# Altium footprint library PcbLib1.PcbLib: 18 footprints (part 1 of 2)
Each footprint in its own frame and in the unit in brackets; x right, y up, seen from the top. Pads: shape width x height; smd on the part's side, far side on the other; paste and mask are expansions set on the pad; w line width, h text height; cw(c..) or ccw(c..) is an arc to the next point about the centre after c.
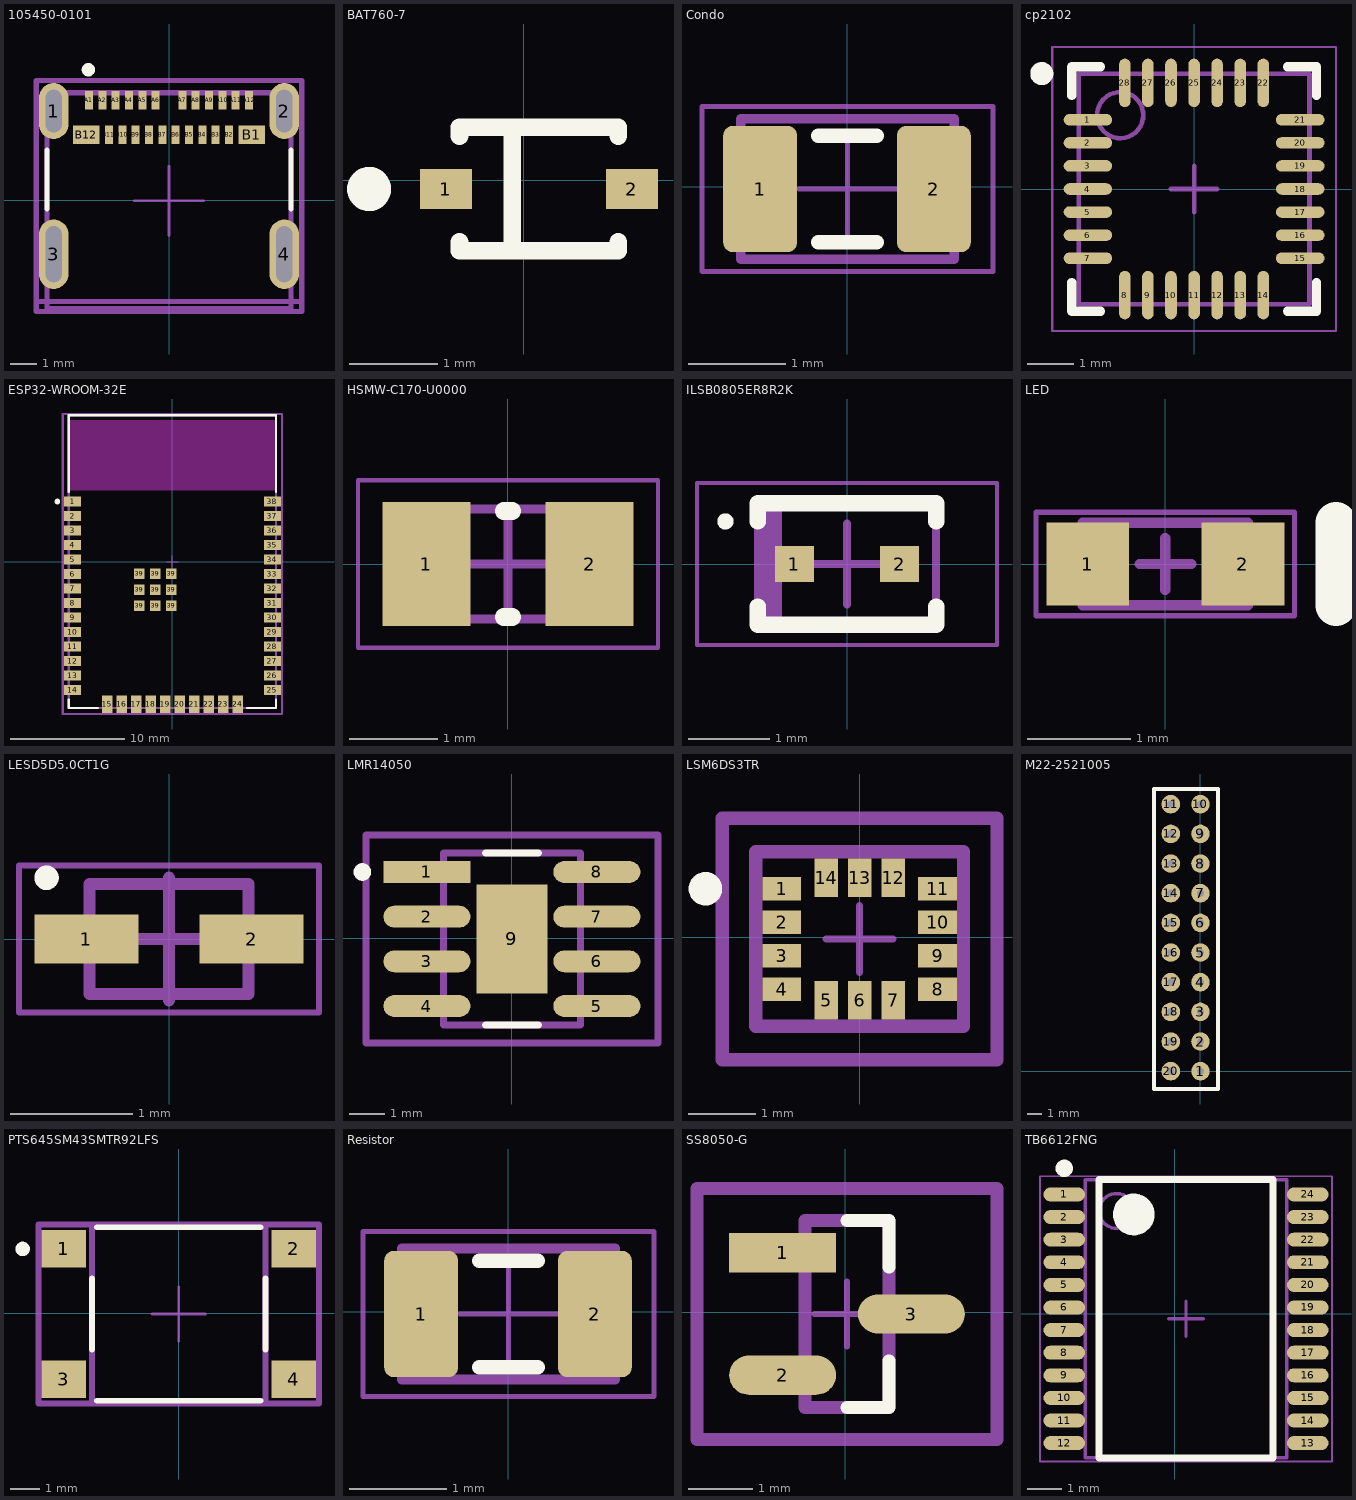
[diagram p0: the footprints below, top view; thin cyan lines are the x and y axes]

## 105450-0101 [mm] "importé !"
pads (28):
  rrect100% 1.1x2.1 hole 1.6 slot 0.6 at 0 deg paste-2539.97 mask+0: 1(-4.32,3.335) 2(4.32,3.335)
  rrect100% 1.1x2.6 hole 2.1 slot 0.6 at 0 deg paste-2539.97 mask+0: 3(-4.32,-2.025) 4(4.32,-2.025)
  rect 0.3x0.7 smd paste+0 mask+0: A1(-3,3.745) A2(-2.5,3.745) A3(-2,3.745) A4(-1.5,3.745) A5(-1,3.745) A6(-0.5,3.745) A7(0.5,3.745) A8(1,3.745) A9(1.5,3.745) A10(2,3.745) A11(2.5,3.745) A12(3,3.745) B2(2.25,2.445) B3(1.75,2.445) B4(1.25,2.445) B5(0.75,2.445) B6(0.25,2.445) B7(-0.25,2.445) B8(-0.75,2.445) B9(-1.25,2.445) B10(-1.75,2.445) B11(-2.25,2.445)
  rect 1x0.7 smd paste+0 mask+0: B1(3.1,2.445) B12(-3.1,2.445)
Top Overlay:
  circle w0.25: c-3.02,4.885 r0.125
  lines w0.2: -4.57,-0.325 -4.57,1.875 ; 4.57,-0.325 4.57,1.875
Top 3D Body:
  lines w0.2: -4.97,-3.795 4.97,-3.795 ; -4.57,-4.075 4.57,-4.075 4.57,4.025 -4.57,4.025 -4.57,-4.075
Board:
  lines w0.2: -4.97,-4.175 4.97,-4.175 4.97,4.485 -4.97,4.485 -4.97,-4.175
Top Assembly:
  lines w0.2: -4.97,-4.175 4.97,-4.175 4.97,4.485 -4.97,4.485 -4.97,-4.175
Top Component Center:
  lines w0.1: -1.299,-0.025 1.299,-0.025 ; 0,-1.324 0,1.274

## BAT760-7 [mm]
pads (2):
  rect 0.59x0.45 smd paste+0 mask+0: 1(-0.885,-0.099) 2(1.225,-0.099)
Top Overlay:
  circle w0.25: c-1.755,-0.099 r0.125
  lines w0.2: -0.73,-0.699 -0.73,-0.799 1.07,-0.799 1.07,-0.699 ; -0.73,0.501 -0.73,0.601 1.07,0.601 1.07,0.501 ; -0.13,-0.699 -0.13,0.501

## Condo [mm]
pads (2):
  rrect25% 0.76x1.3 smd: 1(-0.9,-0.025) 2(0.89,-0.025)
Top Overlay:
  lines w0.15: -0.3,-0.575 0.3,-0.575 ; -0.3,0.525 0.3,0.525
Top Courtyard:
  lines w0.05: -0.5,-0.025 0.5,-0.025 ; 0,-0.525 0,0.475 ; -1.5,-0.875 -1.5,0.825 1.5,0.825 1.5,-0.875 -1.5,-0.875
Top Assembly:
  lines w0.1: -1.1,-0.75 1.1,-0.75 1.1,0.7 -1.1,0.7 -1.1,-0.75
Top Designator:
3D body "CAPC2012X145N EIA 0805.STEP": height 1.45, standoff 0, extent -1,-0.625 1,0.575

## cp2102 [mm] "QFN, 28-Leads, Body 5,00x5,00mm, Pitch 0,50mm, Thermal Pad 3,13x3,13mm, IPC Medium Density"
height 1
pads (28):
  oval 1.05x0.25 smd: 1(-2.3,1.5) 2(-2.3,1) 3(-2.3,0.5) 4(-2.3,0) 5(-2.3,-0.5) 6(-2.3,-1) 7(-2.3,-1.5) 15(2.3,-1.5) 16(2.3,-1) 17(2.3,-0.5) 18(2.3,0) 19(2.3,0.5) 20(2.3,1) 21(2.3,1.5)
  oval 0.25x1.05 smd: 8(-1.5,-2.3) 9(-1,-2.3) 10(-0.5,-2.3) 11(0,-2.3) 12(0.5,-2.3) 13(1,-2.3) 14(1.5,-2.3) 22(1.5,2.3) 23(1,2.3) 24(0.5,2.3) 25(0,2.3) 26(-0.5,2.3) 27(-1,2.3) 28(-1.5,2.3)
Top Overlay:
  circle w0.25: c-3.3,2.5 r0.125
  lines w0.2: -2.65,-2.025 -2.65,-2.65 -2.025,-2.65 ; -2.65,2.025 -2.65,2.65 -2.025,2.65 ; 2.025,-2.65 2.65,-2.65 2.65,-2.025 ; 2.025,2.65 2.65,2.65 2.65,2.025
Mechanical 13:
  circle w0.1: c-1.6,1.6 r0.5
  lines w0.1: -2.5,-2.5 -2.5,2.5 2.5,2.5 2.5,-2.5 -2.5,-2.5
Mechanical 15:
  lines w0.05: -3.075,-3.075 -3.075,3.075 3.075,3.075 3.075,-3.075 -3.075,-3.075
  lines w0.1: -0.5,0 0.5,0 ; 0,-0.5 0,0.5
3D body "QFN50P500X500X100_HS-29N.step": height 1, standoff 0, extent -2.55,-2.55 2.55,2.55

## ESP32-WROOM-32E [mm]
pads (47):
  rect 1.5x0.9 smd paste+0 mask+0: 1(-8.75,5.262) 2(-8.75,3.992) 3(-8.75,2.722) 4(-8.75,1.452) 5(-8.75,0.182) 6(-8.75,-1.088) 7(-8.75,-2.358) 8(-8.75,-3.628) 9(-8.75,-4.898) 10(-8.75,-6.168) 11(-8.75,-7.438) 12(-8.75,-8.708) 13(-8.75,-9.978) 14(-8.75,-11.248) 25(8.75,-11.248) 26(8.75,-9.978) 27(8.75,-8.708) 28(8.75,-7.438) 29(8.75,-6.168) 30(8.75,-4.898) 31(8.75,-3.628) 32(8.75,-2.358) 33(8.75,-1.088) 34(8.75,0.182) 35(8.75,1.452) 36(8.75,2.722) 37(8.75,3.992) 38(8.75,5.262)
  rect 0.9x1.5 smd paste+0 mask+0: 15(-5.71,-12.498) 16(-4.44,-12.498) 17(-3.17,-12.498) 18(-1.9,-12.498) 19(-0.63,-12.498) 20(0.64,-12.498) 21(1.91,-12.498) 22(3.18,-12.498) 23(4.45,-12.498) 24(5.72,-12.498)
  rect 0.9x0.9 smd paste+0 mask+0: 39(-2.9,-3.858) 39(-2.9,-2.458) 39(-2.9,-1.058) 39(-1.5,-3.858) 39(-1.5,-2.458) 39(-1.5,-1.058) 39(-0.1,-3.858) 39(-0.1,-2.458) 39(-0.1,-1.058)
Top Overlay:
  circle w0.25: c-10.075,5.262 r0.125
  lines w0.2: -9.075,-12.073 -9.075,-12.823 -6.535,-12.823 ; -9.075,6.087 -9.075,12.827 9.075,12.827 9.075,6.087 ; 6.545,-12.823 9.075,-12.823 9.075,-12.073
Keep-Out Layer:
  rectangle: -9,6.207 9,12.397
  rectangle: -9,6.207 9,12.397
Top 3D Body:
  lines w0.2: -9.075,-12.823 9.075,-12.823 9.075,12.827 -9.075,12.827 -9.075,-12.823
Board:
  lines w0.2: -9.6,-13.348 9.6,-13.348 9.6,12.927 -9.6,12.927 -9.6,-13.348
Top Assembly:
  lines w0.2: -9.6,-13.348 9.6,-13.348 9.6,12.927 -9.6,12.927 -9.6,-13.348
Top Component Center:
  lines w0.1: -0.5,0.002 0.5,0.002 ; 0,-0.498 0,0.502
3D body "UNK_Espressif_Systems_ESP32-WROOM-32E_4MB_eec.STEP": height 0.25, standoff 0, extent -9.6,-13.348 9.6,12.927

## HSMW-C170-U0000 [mm] "Chip Diode, 2-Leads, Body 2,00x1,25mm, IPC Medium Density"
height 0.8
pads (2):
  rect 1x1.4 smd: 1(-0.925,0) 2(0.925,0)
Top Overlay:
  lines w0.2: -0.05,-0.6 0.05,-0.6 ; -0.05,0.6 0.05,0.6
Mechanical 13:
  lines w0.1: -1,-0.625 -1,0.625 1,0.625 1,-0.625 -1,-0.625
Mechanical 15:
  lines w0.05: -1.7,-0.95 -1.7,0.95 1.7,0.95 1.7,-0.95 -1.7,-0.95
  lines w0.1: -0.5,0 0.5,0 ; 0,-0.5 0,0.5
3D body "DIOC2012X08N.step": height 0.8, standoff 0, extent -1,-0.625 1,0.625

## ILSB0805ER8R2K [mm] "Molded Diode, 2-Leads, Body 2,00x1,25mm, IPC Medium Density"
height 1.4
pads (2):
  rect 0.48x0.45 smd: 1(-0.65,0) 2(0.65,0)
Top Overlay:
  circle w0.1: c-1.5,0.525 r0.05
  lines w0.2: -1.1,-0.525 -1.1,-0.75 1.1,-0.75 1.1,-0.525 ; -1.1,0.525 -1.1,0.75 1.1,0.75 1.1,0.525
Mechanical 13:
  rectangle: -1.1,-0.725 -0.804,0.725
  lines w0.1: -1.1,-0.725 1.1,-0.725 1.1,0.725 -1.1,0.725 -1.1,-0.725
Mechanical 15:
  lines w0.05: -1.85,-1 1.85,-1 1.85,1 -1.85,1 -1.85,-1
  lines w0.1: -0.5,0 0.5,0 ; 0,-0.5 0,0.5
3D body "DIOM2012X14N.step": height 1.4, standoff 0, extent -1.32,-0.725 1.32,0.725

## LED [mm]
pads (2):
  rect 0.8x0.8 smd: 1(-0.75,0) 2(0.75,0)
Top Overlay:
  lines w0.4: 1.65,-0.4 1.65,0.4
Mechanical 13:
  lines w0.1: -0.55,-0.4 -0.55,0.4 ; 0.55,-0.4 0.55,0.4 ; -0.8,-0.4 -0.8,0.4 0.8,0.4 0.8,-0.4 -0.8,-0.4
Mechanical 15:
  lines w0.05: -1.25,-0.5 1.25,-0.5 1.25,0.5 -1.25,0.5 -1.25,-0.5
  lines w0.1: -0.25,0 0.25,0 ; 0,-0.25 0,0.25
3D body: height 0.65, standoff 0.28, extent -0.55,-0.4 0.55,0.4
3D body: height 0.28, standoff 0, extent -0.8,-0.4 0.8,0.4

## LESD5D5.0CT1G [mm] "SODFL, 2-Leads, Body 0,80x1,60mm, IPC Medium Density"
height 0.6
pads (2):
  rect 0.85x0.4 smd: 1(-0.675,0) 2(0.675,0)
Top Overlay:
  circle w0.1: c-1,0.5 r0.05
Top Courtyard:
  lines w0.05: -1.225,-0.6 -1.225,0.6 1.225,0.6 1.225,-0.6 -1.225,-0.6
  lines w0.1: -0.5,0 0.5,0 ; 0,-0.5 0,0.5
Top Assembly:
  lines w0.1: -0.65,-0.45 -0.65,0.45 0.65,0.45 0.65,-0.45 -0.65,-0.45
3D body "SODFL160X60-2N.step": height 0.6, standoff 0, extent -0.8,-0.45 0.8,0.45

## LMR14050 [mm]
pads (9):
  rect 2.474x0.622 smd paste+0 mask+0: 1(-2.416,1.88)
  rrect100% 2.474x0.622 smd paste+0 mask+0: 2(-2.416,0.61) 3(-2.416,-0.66) 4(-2.416,-1.93) 5(2.416,-1.93) 6(2.416,-0.66) 7(2.416,0.61) 8(2.416,1.88)
  rect 2.025x3.1 smd paste-1000 mask+0: 9(0,-0.025)
Top Overlay:
  circle w0.25: c-4.25,1.88 r0.125
  lines w0.2: -0.75,-2.475 0.75,-2.475 ; -0.75,2.425 0.75,2.425
Top Paste:
  rectangle: -0.568,-1.13 0.568,1.08
Top 3D Body:
  lines w0.2: -1.95,-2.475 1.95,-2.475 1.95,2.425 -1.95,2.425 -1.95,-2.475
Board:
  lines w0.2: -4.153,-2.975 4.153,-2.975 4.153,2.925 -4.153,2.925 -4.153,-2.975
Top Assembly:
  lines w0.2: -4.153,-2.975 4.153,-2.975 4.153,2.925 -4.153,2.925 -4.153,-2.975
Top Component Center:
  lines w0.1: -0.5,-0.025 0.5,-0.025 ; 0,-0.525 0,0.475
3D body "IC_Texas_Instruments_TPS54360BQDDARQ1_eec.STEP": height 0.25, standoff 0, extent -4.153,-2.975 4.153,2.925

## LSM6DS3TR [mm]
pads (14):
  rect 0.575x0.35 smd paste+0 mask+0: 1(-1.162,0.725) 2(-1.162,0.225) 3(-1.162,-0.275) 4(-1.162,-0.775) 8(1.162,-0.775) 9(1.162,-0.275) 10(1.162,0.225) 11(1.162,0.725)
  rect 0.35x0.575 smd paste+0 mask+0: 5(-0.5,-0.938) 6(0,-0.938) 7(0.5,-0.938) 12(0.5,0.887) 13(0,0.887) 14(-0.5,0.887)
Top Overlay:
  circle w0.25: c-2.3,0.725 r0.125
Top 3D Body:
  lines w0.2: -1.55,-1.325 -1.55,1.275 1.55,1.275 1.55,-1.325 -1.55,-1.325
Board:
  lines w0.2: -2.05,-1.825 -2.05,1.775 2.05,1.775 2.05,-1.825 -2.05,-1.825
Top Assembly:
  lines w0.2: -2.05,-1.825 -2.05,1.775 2.05,1.775 2.05,-1.825 -2.05,-1.825
Top Component Center:
  lines w0.1: -0.5,-0.025 0.5,-0.025 ; 0,-0.525 0,0.475
3D body "IC_STMicroelectronics_LSM6DS3TR_eec.STEP": height 0.25, standoff 0, extent -2.05,-1.825 2.05,1.775

## M22-2521005 [mm]
pads (20):
  round 1.25 hole 0.5: 1(0,0) 2(0,2) 3(0,4) 4(0,6) 5(0,8) 6(0,10) 7(0,12) 8(0,14) 9(0,16) 10(0,18) 11(-2,18) 12(-2,16) 13(-2,14) 14(-2,12) 15(-2,10) 16(-2,8) 17(-2,6) 18(-2,4) 19(-2,2) 20(-2,0)
Top Overlay:
  lines w0.254: -3.125,-1.2 1.175,-1.2 1.175,19.025 -3.125,19.025 -3.125,-1.2

## PTS645SM43SMTR92LFS [mm]
pads (4):
  rect 1.55x1.3 smd paste+0 mask+0: 1(-3.975,2.225) 2(3.975,2.225) 3(-3.975,-2.275) 4(3.975,-2.275)
Top Overlay:
  circle w0.25: c-5.4,2.225 r0.125
  lines w0.2: -3,-1.25 -3,1.2 ; -2.825,-3.025 2.825,-3.025 ; -2.825,2.975 2.825,2.975 ; 3,-1.25 3,1.2
Top 3D Body:
  lines w0.2: -3,-3.025 -3,2.975 3,2.975 3,-3.025 -3,-3.025
Board:
  lines w0.2: -4.85,-3.125 -4.85,3.075 4.85,3.075 4.85,-3.125 -4.85,-3.125
Top Assembly:
  lines w0.2: -4.85,-3.125 -4.85,3.075 4.85,3.075 4.85,-3.125 -4.85,-3.125
Top Component Center:
  lines w0.1: -0.93,-0.025 0.93,-0.025 ; 0,-0.955 0,0.905
3D body "Switch_C&K_PTS645SM43SMTR92LFS_eec.STEP": height 0.25, standoff 0, extent -4.85,-3.125 4.85,3.075

## Resistor [mm]
pads (2):
  rrect25% 0.76x1.3 smd: 1(-0.9,-0.025) 2(0.89,-0.025)
Top Overlay:
  lines w0.15: -0.3,-0.575 0.3,-0.575 ; -0.3,0.525 0.3,0.525
Top Courtyard:
  lines w0.05: -0.5,-0.025 0.5,-0.025 ; 0,-0.525 0,0.475 ; -1.5,-0.875 -1.5,0.825 1.5,0.825 1.5,-0.875 -1.5,-0.875
Top Assembly:
  lines w0.1: -1.1,-0.7 -1.1,0.65 1.1,0.65 1.1,-0.7 -1.1,-0.7
3D body "RES0805.step": height 0.6, standoff 0, extent -1,-0.65 1,0.6

## SS8050-G [mm]
pads (3):
  rect 1.657x0.612 smd paste+0 mask+0: 1(-0.976,0.925)
  rrect100% 1.657x0.612 smd paste+0 mask+0: 2(-0.976,-0.975) 3(1.026,-0.025)
Top Overlay:
  lines w0.2: 0.025,-1.475 0.675,-1.475 0.675,-0.75 ; 0.025,1.425 0.675,1.425 0.675,0.7
Top 3D Body:
  lines w0.2: -0.625,-1.475 0.675,-1.475 0.675,1.425 -0.625,1.425 -0.625,-1.475
Board:
  lines w0.2: -2.304,-1.975 2.354,-1.975 2.354,1.925 -2.304,1.925 -2.304,-1.975
Top Assembly:
  lines w0.2: -2.304,-1.975 2.354,-1.975 2.354,1.925 -2.304,1.925 -2.304,-1.975
Top Component Center:
  lines w0.1: -0.475,-0.025 0.525,-0.025 ; 0.025,-0.525 0.025,0.475
3D body "Trans_Comchip_SS8050-G_eec.STEP": height 0.25, standoff 0, extent -2.304,-1.975 2.354,1.925

## TB6612FNG [mm]
pads (24):
  oval 1.2x0.4 smd: 1(-3.175,3.425) 2(-3.175,2.775) 3(-3.175,2.125) 4(-3.175,1.475) 5(-3.175,0.825) 6(-3.175,0.175) 7(-3.175,-0.475) 8(-3.175,-1.125) 9(-3.175,-1.775) 10(-3.175,-2.425) 11(-3.175,-3.075) 12(-3.175,-3.725) 13(3.825,-3.725) 14(3.825,-3.075) 15(3.825,-2.425) 16(3.825,-1.775) 17(3.825,-1.125) 18(3.825,-0.475) 19(3.825,0.175) 20(3.825,0.825) 21(3.825,1.475) 22(3.825,2.125) 23(3.825,2.775) 24(3.825,3.425)
Top Overlay:
  circle w0.25: c-3.175,4.175 r0.125
  circle w0.6: c-1.175,2.85 r0.3
  lines w0.2: -2.175,-4.15 -2.175,3.85 2.825,3.85 2.825,-4.15 -2.175,-4.15
Mechanical 13:
  circle w0.1: c-1.675,2.95 r0.5
  lines w0.1: -2.575,-4.15 -2.575,3.85 3.225,3.85 3.225,-4.15 -2.575,-4.15
Mechanical 15:
  lines w0.05: -3.875,-4.25 -3.875,3.95 4.525,3.95 4.525,-4.25 -3.875,-4.25
  lines w0.1: -0.175,-0.15 0.825,-0.15 ; 0.325,-0.65 0.325,0.35
3D body "TSOP65P760X160-24L.step": height 1.6, standoff 0, extent -3.475,-4.15 4.125,3.85